# Altium integrated library Thermistor - NTC.IntLib: 283 symbols (part 4 of 5)
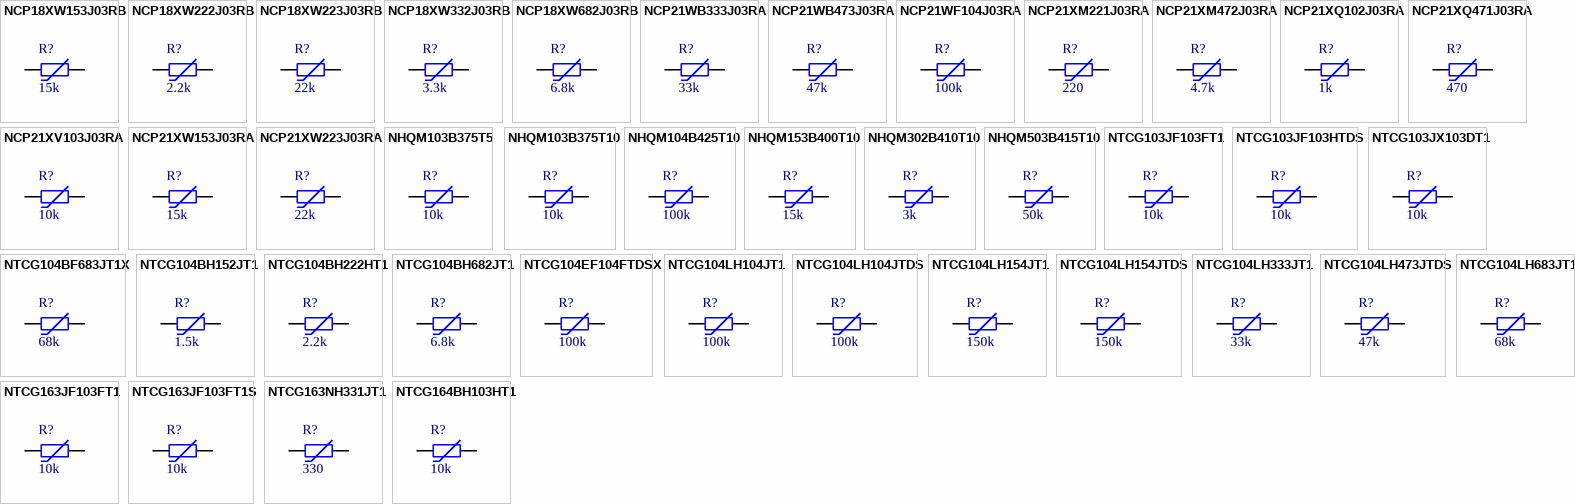
[diagram p10: symbols NCP18XW153J03RB to NTCG164BH103HT1]

## NTCG104LH104JTDS
designator R?  Resistance in Ohms @ 25C: 100k
THERMISTOR, NTC, 100K OHM, 5%, 0; Part Number: NTCG104LH104JTDS; Manufacturer: TDK Corporation; TemperatureRange: -40C ~ 125C; B Value Tolerance: 3%; B25/50: 4485K; B25/85: 4550K; Value: 100k; PartId: 16535; Supplier 1: Digi-Key; Supplier Part Number 1: 445-174512-2-ND; ComponentLink1Description: Datasheet; ComponentLink1URL: //media.digikey.com/pdf/Data%20Sheets/TDK%20PDFs/NTCG104LH104JTDS_Spec.pdf; ComponentLink2Description: Digi-Key Listing; ComponentLink2URL: https://www.digikey.com/product-detail/en/tdk-corporation/NTCG104LH104JTDS/445-174512-2-ND/5981590; Price: 0.0338; Resistance Tolerance: 5%; Device Package: 0402 (1005 Metric)
footprint FER 0402/1005
pins: 1, 2

## NTCG104LH154JT1
designator R?  Resistance in Ohms @ 25C: 150k
THERMISTOR, NTC, 150K OHM, 5%, 0; Part Number: NTCG104LH154JT1; Manufacturer: TDK Corporation; TemperatureRange: -40C ~ 125C; B Value Tolerance: 3%; B25/50: 4485K; B25/85: 4550K; Value: 150k; PartId: 16538; Supplier 1: Digi-Key; Supplier Part Number 1: 445-174318-2-ND; ComponentLink1Description: Datasheet; ComponentLink1URL: https://product.tdk.com/info/en/catalog/datasheets/tpd_ntc-thermistor_ntcg_en.pdf; ComponentLink2Description: Digi-Key Listing; ComponentLink2URL: https://www.digikey.com/product-detail/en/tdk-corporation/NTCG104LH154JT1/445-174318-2-ND/5872765; Price: 0.0338; Resistance Tolerance: 5%; Device Package: 0402 (1005 Metric)
footprint FER 0402/1005
pins: 1, 2

## NTCG104LH154JTDS
designator R?  Resistance in Ohms @ 25C: 150k
THERMISTOR, NTC, 150K OHM, 5%, 0; Part Number: NTCG104LH154JTDS; Manufacturer: TDK Corporation; TemperatureRange: -40C ~ 125C; B Value Tolerance: 3%; B25/50: 4485K; B25/85: 4550K; Value: 150k; PartId: 16534; Supplier 1: Digi-Key; Supplier Part Number 1: 445-174513-2-ND; ComponentLink1Description: Datasheet; ComponentLink1URL: //media.digikey.com/pdf/Data%20Sheets/TDK%20PDFs/NTCG104LH154JTDS_Spec.pdf; ComponentLink2Description: Digi-Key Listing; ComponentLink2URL: https://www.digikey.com/product-detail/en/tdk-corporation/NTCG104LH154JTDS/445-174513-2-ND/5981591; Price: 0.0338; Resistance Tolerance: 5%; Device Package: 0402 (1005 Metric)
footprint FER 0402/1005
pins: 1, 2

## NTCG104LH333JT1
designator R?  Resistance in Ohms @ 25C: 33k
THERMISTOR, NTC, 33K OHM, 5%, 04; Part Number: NTCG104LH333JT1; Manufacturer: TDK Corporation; TemperatureRange: -40C ~ 125C; B Value Tolerance: 3%; B25/50: 4485K; B25/85: 4550K; Value: 33k; PartId: 16537; Supplier 1: Digi-Key; Supplier Part Number 1: 445-174320-2-ND; ComponentLink1Description: Datasheet; ComponentLink1URL: https://product.tdk.com/info/en/catalog/datasheets/tpd_ntc-thermistor_ntcg_en.pdf; ComponentLink2Description: Digi-Key Listing; ComponentLink2URL: https://www.digikey.com/product-detail/en/tdk-corporation/NTCG104LH333JT1/445-174320-2-ND/5872767; Price: 0.0338; Resistance Tolerance: 5%; Device Package: 0402 (1005 Metric)
footprint FER 0402/1005
pins: 1, 2

## NTCG104LH473JTDS
designator R?  Resistance in Ohms @ 25C: 47k
THERMISTOR, NTC, 47K OHM, 5%, 04; Part Number: NTCG104LH473JTDS; Manufacturer: TDK Corporation; TemperatureRange: -40C ~ 125C; B Value Tolerance: 3%; B25/50: 4485K; B25/85: 4550K; Value: 47k; PartId: 16533; Supplier 1: Digi-Key; Supplier Part Number 1: 445-174515-2-ND; ComponentLink1Description: Datasheet; ComponentLink1URL: //media.digikey.com/pdf/Data%20Sheets/TDK%20PDFs/NTCG104LH473JTDS_Spec.pdf; ComponentLink2Description: Digi-Key Listing; ComponentLink2URL: https://www.digikey.com/product-detail/en/tdk-corporation/NTCG104LH473JTDS/445-174515-2-ND/5981593; Price: 0.0338; Resistance Tolerance: 5%; Device Package: 0402 (1005 Metric)
footprint FER 0402/1005
pins: 1, 2

## NTCG104LH683JT1
designator R?  Resistance in Ohms @ 25C: 68k
THERMISTOR, NTC, 68K OHM, 5%, 04; Part Number: NTCG104LH683JT1; Manufacturer: TDK Corporation; TemperatureRange: -40C ~ 125C; B Value Tolerance: 3%; B25/50: 4485K; B25/85: 4550K; Value: 68k; PartId: 16536; Supplier 1: Digi-Key; Supplier Part Number 1: 445-174322-2-ND; ComponentLink1Description: Datasheet; ComponentLink1URL: https://product.tdk.com/info/en/catalog/datasheets/tpd_ntc-thermistor_ntcg_en.pdf; ComponentLink2Description: Digi-Key Listing; ComponentLink2URL: https://www.digikey.com/product-detail/en/tdk-corporation/NTCG104LH683JT1/445-174322-2-ND/5872769; Price: 0.0338; Resistance Tolerance: 5%; Device Package: 0402 (1005 Metric)
footprint FER 0402/1005
pins: 1, 2

## NTCG163JF103FT1
designator R?  Resistance in Ohms @ 25C: 10k
THERMISTOR NTC 10K OHM 1% 0603; Part Number: NTCG163JF103FT1; Manufacturer: TDK Corporation; TemperatureRange: -40C ~ 125C; B25/50: 3380K; B25/85: 3435K; Value: 10k; PartId: 16579; Supplier 1: Digi-Key; Supplier Part Number 1: 445-2554-2-ND; ComponentLink1Description: Datasheet; ComponentLink1URL: https://product.tdk.com/info/en/catalog/datasheets/tpd_ntc-thermistor_ntcg_en.pdf; ComponentLink2Description: Digi-Key Listing; ComponentLink2URL: https://www.digikey.com/product-detail/en/tdk-corporation/NTCG163JF103FT1/445-2554-2-ND/614632; Price: 0.1315; Resistance Tolerance: 1%; B Value Tolerance: 1%; Device Package: 0603 (1608 Metric)
footprint FER 0603/1608
pins: 1, 2

## NTCG163JF103FT1S
designator R?  Resistance in Ohms @ 25C: 10k
THERMISTOR NTC 10K OHM 1% 0603; Part Number: NTCG163JF103FT1S; Manufacturer: TDK Corporation; TemperatureRange: -40C ~ 150C; B25/85: 3435K; Power - Max: 100mW; Value: 10k; PartId: 16694; Supplier 1: Digi-Key; Supplier Part Number 1: 445-6881-2-ND; ComponentLink1Description: Datasheet; ComponentLink1URL: https://product.tdk.com/info/en/catalog/datasheets/tpd_ntc-thermistor_ntcg_en.pdf; ComponentLink2Description: Digi-Key Listing; ComponentLink2URL: https://www.digikey.com/product-detail/en/tdk-corporation/NTCG163JF103FT1S/445-6881-2-ND/2658337; Price: 0.3939; Resistance Tolerance: 1%; B Value Tolerance: 1%; Device Package: 0603 (1608 Metric)
footprint FER 0603/1608
pins: 1, 2

## NTCG163NH331JT1
designator R?  Resistance in Ohms @ 25C: 330
THERMISTOR, NTC, 330 OHM, 5%, 06; Part Number: NTCG163NH331JT1; Manufacturer: TDK Corporation; Value: 330; TemperatureRange: -40C ~ 125C; B Value Tolerance: 3%; PartId: 16674; Supplier 1: Digi-Key; Supplier Part Number 1: 445-174325-2-ND; ComponentLink1Description: Datasheet; ComponentLink1URL: https://product.tdk.com/info/en/catalog/datasheets/tpd_ntc-thermistor_ntcg_en.pdf; ComponentLink2Description: Digi-Key Listing; ComponentLink2URL: https://www.digikey.com/product-detail/en/tdk-corporation/NTCG163NH331JT1/445-174325-2-ND/5872772; Price: 0.0707; Resistance Tolerance: 5%; Device Package: 0603 (1608 Metric)
footprint FER 0603/1608
pins: 1, 2

## NTCG164BH103HT1
designator R?  Resistance in Ohms @ 25C: 10k
THERMISTOR NTC 10K OHM 3% 0603; Part Number: NTCG164BH103HT1; Manufacturer: TDK Corporation; TemperatureRange: -40C ~ 125C; B25/50: 4067K; B25/85: 4100K; Value: 10k; PartId: 16612; Supplier 1: Digi-Key; Supplier Part Number 1: 445-2555-2-ND; ComponentLink1Description: Datasheet; ComponentLink1URL: https://product.tdk.com/info/en/catalog/datasheets/tpd_ntc-thermistor_ntcg_en.pdf; ComponentLink2Description: Digi-Key Listing; ComponentLink2URL: https://www.digikey.com/product-detail/en/tdk-corporation/NTCG164BH103HT1/445-2555-2-ND/614633; Price: 0.1096; Resistance Tolerance: 3%; B Value Tolerance: 3%; Device Package: 0603 (1608 Metric)
footprint FER 0603/1608
pins: 1, 2

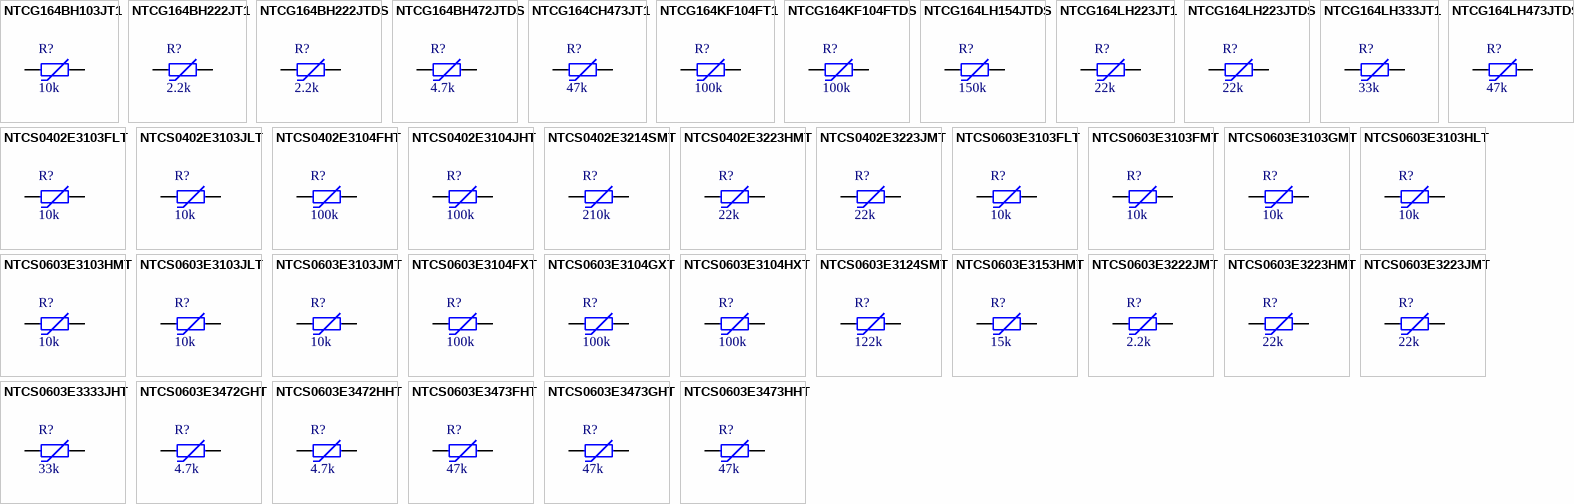
[diagram p5: symbols NTCG164BH103JT1 to NTCS0603E3473HHT]

## NTCG164BH103JT1
designator R?  Resistance in Ohms @ 25C: 10k
THERMISTOR, NTC, 10K OHM, 5%, 06; Part Number: NTCG164BH103JT1; Manufacturer: TDK Corporation; TemperatureRange: -40C ~ 125C; B Value Tolerance: 3%; B25/50: 4067K; B25/85: 4100K; Value: 10k; PartId: 16673; Supplier 1: Digi-Key; Supplier Part Number 1: 445-174327-2-ND; ComponentLink1Description: Datasheet; ComponentLink1URL: https://product.tdk.com/info/en/catalog/datasheets/tpd_ntc-thermistor_ntcg_en.pdf; ComponentLink2Description: Digi-Key Listing; ComponentLink2URL: https://www.digikey.com/product-detail/en/tdk-corporation/NTCG164BH103JT1/445-174327-2-ND/5872774; Price: 0.0707; Resistance Tolerance: 5%; Device Package: 0603 (1608 Metric)
footprint FER 0603/1608
pins: 1, 2

## NTCG164BH222JT1
designator R?  Resistance in Ohms @ 25C: 2.2k
THERMISTOR, NTC, 2.2K OHM, 5%, 0; Part Number: NTCG164BH222JT1; Manufacturer: TDK Corporation; TemperatureRange: -40C ~ 125C; B Value Tolerance: 3%; B25/50: 4096K; B25/85: 4100K; Value: 2.2k; PartId: 16672; Supplier 1: Digi-Key; Supplier Part Number 1: 445-174328-2-ND; ComponentLink1Description: Datasheet; ComponentLink1URL: https://product.tdk.com/info/en/catalog/datasheets/tpd_ntc-thermistor_ntcg_en.pdf; ComponentLink2Description: Digi-Key Listing; ComponentLink2URL: https://www.digikey.com/product-detail/en/tdk-corporation/NTCG164BH222JT1/445-174328-2-ND/5872775; Price: 0.0707; Resistance Tolerance: 5%; Device Package: 0603 (1608 Metric)
footprint FER 0603/1608
pins: 1, 2

## NTCG164BH222JTDS
designator R?  Resistance in Ohms @ 25C: 2.2k
THERMISTOR, NTC, 2.2K OHM, 5%, 0; Part Number: NTCG164BH222JTDS; Manufacturer: TDK Corporation; TemperatureRange: -40C ~ 125C; B Value Tolerance: 3%; B25/50: 4096K; B25/85: 4100K; Value: 2.2k; PartId: 16668; Supplier 1: Digi-Key; Supplier Part Number 1: 445-174521-2-ND; ComponentLink1Description: Datasheet; ComponentLink1URL: //media.digikey.com/pdf/Data%20Sheets/TDK%20PDFs/NTCG164BH222JTDS_Spec.pdf; ComponentLink2Description: Digi-Key Listing; ComponentLink2URL: https://www.digikey.com/product-detail/en/tdk-corporation/NTCG164BH222JTDS/445-174521-2-ND/5981599; Price: 0.0707; Resistance Tolerance: 5%; Device Package: 0603 (1608 Metric)
footprint FER 0603/1608
pins: 1, 2

## NTCG164BH472JTDS
designator R?  Resistance in Ohms @ 25C: 4.7k
THERMISTOR, NTC, 4.7K OHM, 5%, 0; Part Number: NTCG164BH472JTDS; Manufacturer: TDK Corporation; TemperatureRange: -40C ~ 125C; B Value Tolerance: 3%; B25/50: 4096K; B25/85: 4100K; Value: 4.7k; PartId: 16667; Supplier 1: Digi-Key; Supplier Part Number 1: 445-174522-2-ND; ComponentLink1Description: Datasheet; ComponentLink1URL: //media.digikey.com/pdf/Data%20Sheets/TDK%20PDFs/NTCG164BH472JTDS_Spec.pdf; ComponentLink2Description: Digi-Key Listing; ComponentLink2URL: https://www.digikey.com/product-detail/en/tdk-corporation/NTCG164BH472JTDS/445-174522-2-ND/5981600; Price: 0.0707; Resistance Tolerance: 5%; Device Package: 0603 (1608 Metric)
footprint FER 0603/1608
pins: 1, 2

## NTCG164CH473JT1
designator R?  Resistance in Ohms @ 25C: 47k
THERMISTOR, NTC, 47K OHM, 5%, 06; Part Number: NTCG164CH473JT1; Manufacturer: TDK Corporation; TemperatureRange: -40C ~ 125C; B Value Tolerance: 3%; B25/50: 4050K; B25/85: 4150K; Value: 47k; PartId: 16671; Supplier 1: Digi-Key; Supplier Part Number 1: 445-174330-2-ND; ComponentLink1Description: Datasheet; ComponentLink1URL: https://product.tdk.com/info/en/catalog/datasheets/tpd_ntc-thermistor_ntcg_en.pdf; ComponentLink2Description: Digi-Key Listing; ComponentLink2URL: https://www.digikey.com/product-detail/en/tdk-corporation/NTCG164CH473JT1/445-174330-2-ND/5872777; Price: 0.0707; Resistance Tolerance: 5%; Device Package: 0603 (1608 Metric)
footprint FER 0603/1608
pins: 1, 2

## NTCG164KF104FT1
designator R?  Resistance in Ohms @ 25C: 100k
THERMISTOR NTC 100K OHM 1% 0603; Part Number: NTCG164KF104FT1; Manufacturer: TDK Corporation; TemperatureRange: -40C ~ 125C; B Value Tolerance: 3%; B25/50: 4419K; B25/85: 4485K; Power - Max: 230mW; Value: 100k; PartId: 16616; Supplier 1: Digi-Key; Supplier Part Number 1: 445-2556-2-ND; ComponentLink1Description: Datasheet; ComponentLink1URL: https://product.tdk.com/info/en/catalog/datasheets/tpd_ntc-thermistor_ntcg_en.pdf; ComponentLink2Description: Digi-Key Listing; ComponentLink2URL: https://www.digikey.com/product-detail/en/tdk-corporation/NTCG164KF104FT1/445-2556-2-ND/614634; Price: 0.1315; Resistance Tolerance: 1%; Device Package: 0603 (1608 Metric)
footprint FER 0603/1608
pins: 1, 2

## NTCG164KF104FTDS
designator R?  Resistance in Ohms @ 25C: 100k
THERMISTOR, NTC, 100K OHM, 1%, 0; Part Number: NTCG164KF104FTDS; Manufacturer: TDK Corporation; TemperatureRange: -40C ~ 125C; B25/50: 4419K; B25/85: 4485K; Value: 100k; PartId: 16655; Supplier 1: Digi-Key; Supplier Part Number 1: 445-174524-2-ND; ComponentLink1Description: Datasheet; ComponentLink1URL: //media.digikey.com/pdf/Data%20Sheets/TDK%20PDFs/NTCG164KF104FTDS_Spec.pdf; ComponentLink2Description: Digi-Key Listing; ComponentLink2URL: https://www.digikey.com/product-detail/en/tdk-corporation/NTCG164KF104FTDS/445-174524-2-ND/5981602; Price: 0.1335; Resistance Tolerance: 1%; B Value Tolerance: 1%; Device Package: 0603 (1608 Metric)
footprint FER 0603/1608
pins: 1, 2

## NTCG164LH154JTDS
designator R?  Resistance in Ohms @ 25C: 150k
THERMISTOR, NTC, 150K OHM, 5%, 0; Part Number: NTCG164LH154JTDS; Manufacturer: TDK Corporation; TemperatureRange: -40C ~ 125C; B Value Tolerance: 3%; B25/50: 4485K; B25/85: 4550K; Value: 150k; PartId: 16666; Supplier 1: Digi-Key; Supplier Part Number 1: 445-174526-2-ND; ComponentLink1Description: Datasheet; ComponentLink1URL: //media.digikey.com/pdf/Data%20Sheets/TDK%20PDFs/NTCG164LH154JTDS_Spec.pdf; ComponentLink2Description: Digi-Key Listing; ComponentLink2URL: https://www.digikey.com/product-detail/en/tdk-corporation/NTCG164LH154JTDS/445-174526-2-ND/5981604; Price: 0.0707; Resistance Tolerance: 5%; Device Package: 0603 (1608 Metric)
footprint FER 0603/1608
pins: 1, 2

## NTCG164LH223JT1
designator R?  Resistance in Ohms @ 25C: 22k
THERMISTOR, NTC, 22K OHM, 5%, 06; Part Number: NTCG164LH223JT1; Manufacturer: TDK Corporation; TemperatureRange: -40C ~ 125C; B Value Tolerance: 3%; B25/50: 4485K; B25/85: 4550K; Value: 22k; PartId: 16670; Supplier 1: Digi-Key; Supplier Part Number 1: 445-174333-2-ND; ComponentLink1Description: Datasheet; ComponentLink1URL: https://product.tdk.com/info/en/catalog/datasheets/tpd_ntc-thermistor_ntcg_en.pdf; ComponentLink2Description: Digi-Key Listing; ComponentLink2URL: https://www.digikey.com/product-detail/en/tdk-corporation/NTCG164LH223JT1/445-174333-2-ND/5872780; Price: 0.0707; Resistance Tolerance: 5%; Device Package: 0603 (1608 Metric)
footprint FER 0603/1608
pins: 1, 2

## NTCG164LH223JTDS
designator R?  Resistance in Ohms @ 25C: 22k
THERMISTOR, NTC, 22K OHM, 5%, 06; Part Number: NTCG164LH223JTDS; Manufacturer: TDK Corporation; TemperatureRange: -40C ~ 125C; B Value Tolerance: 3%; B25/50: 4485K; B25/85: 4550K; Value: 22k; PartId: 16665; Supplier 1: Digi-Key; Supplier Part Number 1: 445-174527-2-ND; ComponentLink1Description: Datasheet; ComponentLink1URL: //media.digikey.com/pdf/Data%20Sheets/TDK%20PDFs/NTCG164LH223JTDS_Spec.pdf; ComponentLink2Description: Digi-Key Listing; ComponentLink2URL: https://www.digikey.com/product-detail/en/tdk-corporation/NTCG164LH223JTDS/445-174527-2-ND/5981605; Price: 0.0707; Resistance Tolerance: 5%; Device Package: 0603 (1608 Metric)
footprint FER 0603/1608
pins: 1, 2

## NTCG164LH333JT1
designator R?  Resistance in Ohms @ 25C: 33k
THERMISTOR, NTC, 33K OHM, 5%, 06; Part Number: NTCG164LH333JT1; Manufacturer: TDK Corporation; TemperatureRange: -40C ~ 125C; B Value Tolerance: 3%; B25/50: 4485K; B25/85: 4550K; Value: 33k; PartId: 16669; Supplier 1: Digi-Key; Supplier Part Number 1: 445-174334-2-ND; ComponentLink1Description: Datasheet; ComponentLink1URL: https://product.tdk.com/info/en/catalog/datasheets/tpd_ntc-thermistor_ntcg_en.pdf; ComponentLink2Description: Digi-Key Listing; ComponentLink2URL: https://www.digikey.com/product-detail/en/tdk-corporation/NTCG164LH333JT1/445-174334-2-ND/5872781; Price: 0.0707; Resistance Tolerance: 5%; Device Package: 0603 (1608 Metric)
footprint FER 0603/1608
pins: 1, 2

## NTCG164LH473JTDS
designator R?  Resistance in Ohms @ 25C: 47k
THERMISTOR, NTC, 47K OHM, 5%, 06; Part Number: NTCG164LH473JTDS; Manufacturer: TDK Corporation; TemperatureRange: -40C ~ 125C; B Value Tolerance: 3%; B25/50: 4485K; B25/85: 4550K; Value: 47k; PartId: 16664; Supplier 1: Digi-Key; Supplier Part Number 1: 445-174528-2-ND; ComponentLink1Description: Datasheet; ComponentLink1URL: //media.digikey.com/pdf/Data%20Sheets/TDK%20PDFs/NTCG164LH473JTDS_Spec.pdf; ComponentLink2Description: Digi-Key Listing; ComponentLink2URL: https://www.digikey.com/product-detail/en/tdk-corporation/NTCG164LH473JTDS/445-174528-2-ND/5981606; Price: 0.0707; Resistance Tolerance: 5%; Device Package: 0603 (1608 Metric)
footprint FER 0603/1608
pins: 1, 2

## NTCS0402E3103FLT
designator R?  Resistance in Ohms @ 25C: 10k
THERMISTOR NTC 10K 1% 0402; Part Number: NTCS0402E3103FLT; Manufacturer: Vishay BC Components; TemperatureRange: -40C ~ 150C; B Value Tolerance: 3%; B25/85: 3490K; Power - Max: 70mW; Value: 10k; PartId: 16495; Supplier 1: Digi-Key; Supplier Part Number 1: BC2534TR-ND; ComponentLink1Description: Datasheet; ComponentLink1URL: http://www.vishay.com/docs/29003/ntc0402e3t.pdf; ComponentLink2Description: Digi-Key Listing; ComponentLink2URL: https://www.digikey.com/product-detail/en/vishay-bc-components/NTCS0402E3103FLT/BC2534TR-ND/1242122; Price: 0.1607; Resistance Tolerance: 1%; Device Package: 0402 (1005 Metric)
footprint FER 0402/1005
pins: 1, 2

## NTCS0402E3103JLT
designator R?  Resistance in Ohms @ 25C: 10k
THERMISTOR NTC 10K OHM SMT 0402; Part Number: NTCS0402E3103JLT; Manufacturer: Vishay BC Components; TemperatureRange: -40C ~ 150C; Resistance Tolerance: 5%; B Value Tolerance: 3%; B25/85: 3490K; Power - Max: 70mW; Value: 10k; PartId: 16564; Supplier 1: Digi-Key; Supplier Part Number 1: BC2329TR-ND; ComponentLink1Description: Datasheet; ComponentLink1URL: http://www.vishay.com/docs/29003/ntc0402e3t.pdf; ComponentLink2Description: Digi-Key Listing; ComponentLink2URL: https://www.digikey.com/product-detail/en/vishay-bc-components/NTCS0402E3103JLT/BC2329TR-ND/1245343; Price: 0.1229; Device Package: 0402 (1005 Metric)
footprint FER 0402/1005
pins: 1, 2

## NTCS0402E3104FHT
designator R?  Resistance in Ohms @ 25C: 100k
THERMISTOR NTC 100K OHM 1% 0402; Part Number: NTCS0402E3104FHT; Manufacturer: Vishay BC Components; TemperatureRange: -40C ~ 150C; B Value Tolerance: 3%; B25/85: 3950K; Power - Max: 70mW; Value: 100k; PartId: 16500; Supplier 1: Digi-Key; Supplier Part Number 1: BC2806TR-ND; ComponentLink1Description: Datasheet; ComponentLink1URL: http://www.vishay.com/docs/29003/ntc0402e3t.pdf; ComponentLink2Description: Digi-Key Listing; ComponentLink2URL: https://www.digikey.com/product-detail/en/vishay-bc-components/NTCS0402E3104FHT/BC2806TR-ND/1242134; Price: 0.1607; Resistance Tolerance: 1%; Device Package: 0402 (1005 Metric)
footprint FER 0402/1005
pins: 1, 2

## NTCS0402E3104JHT
designator R?  Resistance in Ohms @ 25C: 100k
THERMISTOR NTC 100K OHM 5% 0402; Part Number: NTCS0402E3104JHT; Manufacturer: Vishay BC Components; TemperatureRange: -40C ~ 150C; B Value Tolerance: 3%; B25/85: 3950K; Power - Max: 70mW; Value: 100k; PartId: 16493; Supplier 1: Digi-Key; Supplier Part Number 1: BC2341TR-ND; ComponentLink1Description: Datasheet; ComponentLink1URL: http://www.vishay.com/docs/29003/ntc0402e3t.pdf; ComponentLink2Description: Digi-Key Listing; ComponentLink2URL: https://www.digikey.com/product-detail/en/vishay-bc-components/NTCS0402E3104JHT/BC2341TR-ND/1245355; Price: 0.1229; Resistance Tolerance: 5%; Device Package: 0402 (1005 Metric)
footprint FER 0402/1005
pins: 1, 2

## NTCS0402E3214SMT
designator R?  Resistance in Ohms @ 25C: 210k
THERMISTOR NTC 210K OHM SMT 0402; Part Number: NTCS0402E3214SMT; Manufacturer: Vishay BC Components; TemperatureRange: -40C ~ 125C; Resistance Tolerance: 1%; B25/85: 3590K; Power - Max: 70mW; Value: 210k; PartId: 16549; Supplier 1: Digi-Key; Supplier Part Number 1: BC2903TR-ND; ComponentLink1Description: Datasheet; ComponentLink1URL: http://www.vishay.com/docs/29151/ntcse3smt.pdf; ComponentLink2Description: Digi-Key Listing; ComponentLink2URL: https://www.digikey.com/product-detail/en/vishay-bc-components/NTCS0402E3214SMT/BC2903TR-ND/4896940; Price: 0.2515; B Value Tolerance: 1%; Device Package: 0402 (1005 Metric)
footprint FER 0402/1005
pins: 1, 2

## NTCS0402E3223HMT
designator R?  Resistance in Ohms @ 25C: 22k
THERMISTOR NTC 22K OHM SMT 0402; Part Number: NTCS0402E3223HMT; Manufacturer: Vishay BC Components; TemperatureRange: -40C ~ 150C; Resistance Tolerance: 3%; B25/85: 3590K; Power - Max: 70mW; Value: 22k; PartId: 16571; Supplier 1: Digi-Key; Supplier Part Number 1: BC2332TR-ND; ComponentLink1Description: Datasheet; ComponentLink1URL: http://www.vishay.com/docs/29003/ntc0402e3t.pdf; ComponentLink2Description: Digi-Key Listing; ComponentLink2URL: https://www.digikey.com/product-detail/en/vishay-bc-components/NTCS0402E3223HMT/BC2332TR-ND/1245346; Price: 0.1477; B Value Tolerance: 3%; Device Package: 0402 (1005 Metric)
footprint FER 0402/1005
pins: 1, 2

## NTCS0402E3223JMT
designator R?  Resistance in Ohms @ 25C: 22k
THERMISTOR NTC 22K OHM SMT 0402; Part Number: NTCS0402E3223JMT; Manufacturer: Vishay BC Components; TemperatureRange: -40C ~ 150C; Resistance Tolerance: 5%; B Value Tolerance: 3%; B25/85: 3590K; Power - Max: 70mW; Value: 22k; PartId: 16550; Supplier 1: Digi-Key; Supplier Part Number 1: BC2333TR-ND; ComponentLink1Description: Datasheet; ComponentLink1URL: http://www.vishay.com/docs/29003/ntc0402e3t.pdf; ComponentLink2Description: Digi-Key Listing; ComponentLink2URL: https://www.digikey.com/product-detail/en/vishay-bc-components/NTCS0402E3223JMT/BC2333TR-ND/1245347; Price: 0.1229; Device Package: 0402 (1005 Metric)
footprint FER 0402/1005
pins: 1, 2

## NTCS0603E3103FLT
designator R?  Resistance in Ohms @ 25C: 10k
THERMISTOR NTC 10K OHM SMD 0603; Part Number: NTCS0603E3103FLT; Manufacturer: Vishay BC Components; TemperatureRange: -40C ~ 150C; Resistance Tolerance: 1%; B25/85: 3435K; Power - Max: 125mW; Value: 10k; PartId: 16637; Supplier 1: Digi-Key; Supplier Part Number 1: BC2737TR-ND; ComponentLink1Description: Datasheet; ComponentLink1URL: http://www.vishay.com/docs/29056/ntcs0603.pdf; ComponentLink2Description: Digi-Key Listing; ComponentLink2URL: https://www.digikey.com/product-detail/en/vishay-bc-components/NTCS0603E3103FLT/BC2737TR-ND/2615420; Price: 0.284; B Value Tolerance: 1%; Device Package: 0603 (1608 Metric)
footprint FER 0603/1608
pins: 1, 2

## NTCS0603E3103FMT
designator R?  Resistance in Ohms @ 25C: 10k
THERMISTOR NTC 10K 1% 0603; Part Number: NTCS0603E3103FMT; Manufacturer: Vishay BC Components; TemperatureRange: -40C ~ 150C; B25/85: 3610K; Power - Max: 125mW; Value: 10k; PartId: 16614; Supplier 1: Digi-Key; Supplier Part Number 1: BC2472TR-ND; ComponentLink1Description: Datasheet; ComponentLink1URL: http://www.vishay.com/docs/29056/ntcs0603.pdf; ComponentLink2Description: Digi-Key Listing; ComponentLink2URL: https://www.digikey.com/product-detail/en/vishay-bc-components/NTCS0603E3103FMT/BC2472TR-ND/2230800; Price: 0.284; Resistance Tolerance: 1%; B Value Tolerance: 1%; Device Package: 0603 (1608 Metric)
footprint FER 0603/1608
pins: 1, 2

## NTCS0603E3103GMT
designator R?  Resistance in Ohms @ 25C: 10k
THERMISTOR NTC 10K 2% 0603; Part Number: NTCS0603E3103GMT; Manufacturer: Vishay BC Components; TemperatureRange: -40C ~ 150C; B Value Tolerance: 1%; B25/85: 3610K; Power - Max: 125mW; Value: 10k; PartId: 16625; Supplier 1: Digi-Key; Supplier Part Number 1: BC2473TR-ND; ComponentLink1Description: Datasheet; ComponentLink1URL: http://www.vishay.com/docs/29056/ntcs0603.pdf; ComponentLink2Description: Digi-Key Listing; ComponentLink2URL: https://www.digikey.com/product-detail/en/vishay-bc-components/NTCS0603E3103GMT/BC2473TR-ND/2230801; Price: 0.2545; Resistance Tolerance: 2%; Device Package: 0603 (1608 Metric)
footprint FER 0603/1608
pins: 1, 2

## NTCS0603E3103HLT
designator R?  Resistance in Ohms @ 25C: 10k
THERMISTOR NTC 10K OHM SMD 0603; Part Number: NTCS0603E3103HLT; Manufacturer: Vishay BC Components; TemperatureRange: -40C ~ 150C; Resistance Tolerance: 3%; B Value Tolerance: 1%; B25/85: 3435K; Power - Max: 125mW; Value: 10k; PartId: 16678; Supplier 1: Digi-Key; Supplier Part Number 1: BC2739TR-ND; ComponentLink1Description: Datasheet; ComponentLink1URL: http://www.vishay.com/docs/29056/ntcs0603.pdf; ComponentLink2Description: Digi-Key Listing; ComponentLink2URL: https://www.digikey.com/product-detail/en/vishay-bc-components/NTCS0603E3103HLT/BC2739TR-ND/2615422; Price: 0.171; Device Package: 0603 (1608 Metric)
footprint FER 0603/1608
pins: 1, 2

## NTCS0603E3103HMT
designator R?  Resistance in Ohms @ 25C: 10k
THERMISTOR NTC 10K OHM 0603 SMD; Part Number: NTCS0603E3103HMT; Manufacturer: Vishay BC Components; TemperatureRange: -40C ~ 150C; Resistance Tolerance: 3%; B Value Tolerance: 1%; B25/85: 3610K; Power - Max: 125mW; Value: 10k; PartId: 16615; Supplier 1: Digi-Key; Supplier Part Number 1: BC2290TR-ND; ComponentLink1Description: Datasheet; ComponentLink1URL: http://www.vishay.com/docs/29056/ntcs0603.pdf; ComponentLink2Description: Digi-Key Listing; ComponentLink2URL: https://www.digikey.com/product-detail/en/vishay-bc-components/NTCS0603E3103HMT/BC2290TR-ND/769400; Price: 0.171; Device Package: 0603 (1608 Metric)
footprint FER 0603/1608
pins: 1, 2

## NTCS0603E3103JLT
designator R?  Resistance in Ohms @ 25C: 10k
THERMISTOR NTC 10K 5% 0603; Part Number: NTCS0603E3103JLT; Manufacturer: Vishay BC Components; TemperatureRange: -40C ~ 150C; B Value Tolerance: 1%; B25/85: 3610K; Power - Max: 125mW; Value: 10k; PartId: 16618; Supplier 1: Digi-Key; Supplier Part Number 1: BC2474TR-ND; ComponentLink1Description: Datasheet; ComponentLink1URL: http://www.vishay.com/docs/29056/ntcs0603.pdf; ComponentLink2Description: Digi-Key Listing; ComponentLink2URL: https://www.digikey.com/product-detail/en/vishay-bc-components/NTCS0603E3103JLT/BC2474TR-ND/2230802; Price: 0.1328; Resistance Tolerance: 5%; Device Package: 0603 (1608 Metric)
footprint FER 0603/1608
pins: 1, 2

## NTCS0603E3103JMT
designator R?  Resistance in Ohms @ 25C: 10k
THERMISTOR NTC 10K OHM 0603 SMD; Part Number: NTCS0603E3103JMT; Manufacturer: Vishay BC Components; TemperatureRange: -40C ~ 150C; Resistance Tolerance: 5%; B Value Tolerance: 1%; B25/85: 3610K; Power - Max: 125mW; Value: 10k; PartId: 16626; Supplier 1: Digi-Key; Supplier Part Number 1: BC2289TR-ND; ComponentLink1Description: Datasheet; ComponentLink1URL: http://www.vishay.com/docs/29056/ntcs0603.pdf; ComponentLink2Description: Digi-Key Listing; ComponentLink2URL: https://www.digikey.com/product-detail/en/vishay-bc-components/NTCS0603E3103JMT/BC2289TR-ND/769399; Price: 0.1328; Device Package: 0603 (1608 Metric)
footprint FER 0603/1608
pins: 1, 2

## NTCS0603E3104FXT
designator R?  Resistance in Ohms @ 25C: 100k
THERMISTOR NTC 100K OHM 1% 0603; Part Number: NTCS0603E3104FXT; Manufacturer: Vishay BC Components; TemperatureRange: -40C ~ 150C; B25/85: 4100K; Power - Max: 125mW; Value: 100k; PartId: 16638; Supplier 1: Digi-Key; Supplier Part Number 1: BC2475TR-ND; ComponentLink1Description: Datasheet; ComponentLink1URL: http://www.vishay.com/docs/29056/ntcs0603.pdf; ComponentLink2Description: Digi-Key Listing; ComponentLink2URL: https://www.digikey.com/product-detail/en/vishay-bc-components/NTCS0603E3104FXT/BC2475TR-ND/2230803; Price: 0.284; Resistance Tolerance: 1%; B Value Tolerance: 1%; Device Package: 0603 (1608 Metric)
footprint FER 0603/1608
pins: 1, 2

## NTCS0603E3104GXT
designator R?  Resistance in Ohms @ 25C: 100k
THERMISTOR NTC 100K OHM 2% 0603; Part Number: NTCS0603E3104GXT; Manufacturer: Vishay BC Components; TemperatureRange: -40C ~ 150C; B Value Tolerance: 1%; B25/85: 4100K; Power - Max: 125mW; Value: 100k; PartId: 16617; Supplier 1: Digi-Key; Supplier Part Number 1: BC2476TR-ND; ComponentLink1Description: Datasheet; ComponentLink1URL: http://www.vishay.com/docs/29056/ntcs0603.pdf; ComponentLink2Description: Digi-Key Listing; ComponentLink2URL: https://www.digikey.com/product-detail/en/vishay-bc-components/NTCS0603E3104GXT/BC2476TR-ND/2230804; Price: 0.2545; Resistance Tolerance: 2%; Device Package: 0603 (1608 Metric)
footprint FER 0603/1608
pins: 1, 2

## NTCS0603E3104HXT
designator R?  Resistance in Ohms @ 25C: 100k
THERMISTOR NTC 100K OHM 3% 0603; Part Number: NTCS0603E3104HXT; Manufacturer: Vishay BC Components; TemperatureRange: -40C ~ 150C; B Value Tolerance: 1%; B25/85: 4100K; Power - Max: 125mW; Value: 100k; PartId: 16620; Supplier 1: Digi-Key; Supplier Part Number 1: BC2291TR-ND; ComponentLink1Description: Datasheet; ComponentLink1URL: http://www.vishay.com/docs/29056/ntcs0603.pdf; ComponentLink2Description: Digi-Key Listing; ComponentLink2URL: https://www.digikey.com/product-detail/en/vishay-bc-components/NTCS0603E3104HXT/BC2291TR-ND/769401; Price: 0.171; Resistance Tolerance: 3%; Device Package: 0603 (1608 Metric)
footprint FER 0603/1608
pins: 1, 2

## NTCS0603E3124SMT
designator R?  Resistance in Ohms @ 25C: 122k
THERMISTOR NTC 122K OHM SMT 0603; Part Number: NTCS0603E3124SMT; Manufacturer: Vishay BC Components; TemperatureRange: -40C ~ 125C; Resistance Tolerance: 1%; B25/85: 3590K; Power - Max: 120mW; Value: 122k; PartId: 16653; Supplier 1: Digi-Key; Supplier Part Number 1: BC2904TR-ND; ComponentLink1Description: Datasheet; ComponentLink1URL: http://www.vishay.com/docs/29151/ntcse3smt.pdf; ComponentLink2Description: Digi-Key Listing; ComponentLink2URL: https://www.digikey.com/product-detail/en/vishay-bc-components/NTCS0603E3124SMT/BC2904TR-ND/4896941; Price: 0.4036; B Value Tolerance: 1%; Device Package: 0603 (1608 Metric)
footprint FER 0603/1608
pins: 1, 2

## NTCS0603E3153HMT
designator R?  Resistance in Ohms @ 25C: 15k
THERMISTOR NTC 15K 3% 0603; Part Number: NTCS0603E3153HMT; Manufacturer: Vishay BC Components; TemperatureRange: -40C ~ 150C; B Value Tolerance: 1%; B25/85: 3600K; Power - Max: 125mW; Value: 15k; PartId: 16644; Supplier 1: Digi-Key; Supplier Part Number 1: BC2536TR-ND; ComponentLink1Description: Datasheet; ComponentLink1URL: http://www.vishay.com/docs/29056/ntcs0603.pdf; ComponentLink2Description: Digi-Key Listing; ComponentLink2URL: https://www.digikey.com/product-detail/en/vishay-bc-components/NTCS0603E3153HMT/BC2536TR-ND/774012; Price: 0.171; Resistance Tolerance: 3%; Device Package: 0603 (1608 Metric)
footprint FER 0603/1608
pins: 1, 2

## NTCS0603E3222JMT
designator R?  Resistance in Ohms @ 25C: 2.2k
THERMISTOR NTC 2.2K 5% 0603; Part Number: NTCS0603E3222JMT; Manufacturer: Vishay BC Components; TemperatureRange: -40C ~ 150C; B Value Tolerance: 1%; B25/85: 3520K; Power - Max: 125mW; Value: 2.2k; PartId: 16675; Supplier 1: Digi-Key; Supplier Part Number 1: BC2480TR-ND; ComponentLink1Description: Datasheet; ComponentLink1URL: http://www.vishay.com/docs/29056/ntcs0603.pdf; ComponentLink2Description: Digi-Key Listing; ComponentLink2URL: https://www.digikey.com/product-detail/en/vishay-bc-components/NTCS0603E3222JMT/BC2480TR-ND/2230808; Price: 0.1328; Resistance Tolerance: 5%; Device Package: 0603 (1608 Metric)
footprint FER 0603/1608
pins: 1, 2

## NTCS0603E3223HMT
designator R?  Resistance in Ohms @ 25C: 22k
THERMISTOR NTC 22K 3% 0603; Part Number: NTCS0603E3223HMT; Manufacturer: Vishay BC Components; TemperatureRange: -40C ~ 150C; B Value Tolerance: 1%; B25/85: 3730K; Power - Max: 125mW; Value: 22k; PartId: 16679; Supplier 1: Digi-Key; Supplier Part Number 1: BC2481TR-ND; ComponentLink1Description: Datasheet; ComponentLink1URL: http://www.vishay.com/docs/29056/ntcs0603.pdf; ComponentLink2Description: Digi-Key Listing; ComponentLink2URL: https://www.digikey.com/product-detail/en/vishay-bc-components/NTCS0603E3223HMT/BC2481TR-ND/2230809; Price: 0.171; Resistance Tolerance: 3%; Device Package: 0603 (1608 Metric)
footprint FER 0603/1608
pins: 1, 2

## NTCS0603E3223JMT
designator R?  Resistance in Ohms @ 25C: 22k
THERMISTOR NTC 22K 5% 0603; Part Number: NTCS0603E3223JMT; Manufacturer: Vishay BC Components; TemperatureRange: -40C ~ 150C; B Value Tolerance: 1%; B25/85: 3730K; Power - Max: 125mW; Value: 22k; PartId: 16628; Supplier 1: Digi-Key; Supplier Part Number 1: BC2482TR-ND; ComponentLink1Description: Datasheet; ComponentLink1URL: http://www.vishay.com/docs/29056/ntcs0603.pdf; ComponentLink2Description: Digi-Key Listing; ComponentLink2URL: https://www.digikey.com/product-detail/en/vishay-bc-components/NTCS0603E3223JMT/BC2482TR-ND/2230810; Price: 0.1328; Resistance Tolerance: 5%; Device Package: 0603 (1608 Metric)
footprint FER 0603/1608
pins: 1, 2

## NTCS0603E3333JHT
designator R?  Resistance in Ohms @ 25C: 33k
THERMISTOR NTC 33K 5% 0603; Part Number: NTCS0603E3333JHT; Manufacturer: Vishay BC Components; TemperatureRange: -40C ~ 150C; B Value Tolerance: 1%; B25/85: 3860K; Power - Max: 125mW; Value: 33k; PartId: 16645; Supplier 1: Digi-Key; Supplier Part Number 1: BC2485TR-ND; ComponentLink1Description: Datasheet; ComponentLink1URL: http://www.vishay.com/docs/29056/ntcs0603.pdf; ComponentLink2Description: Digi-Key Listing; ComponentLink2URL: https://www.digikey.com/product-detail/en/vishay-bc-components/NTCS0603E3333JHT/BC2485TR-ND/2230813; Price: 0.1328; Resistance Tolerance: 5%; Device Package: 0603 (1608 Metric)
footprint FER 0603/1608
pins: 1, 2

## NTCS0603E3472GHT
designator R?  Resistance in Ohms @ 25C: 4.7k
THERMISTOR NTC 4.7K 2% 0603; Part Number: NTCS0603E3472GHT; Manufacturer: Vishay BC Components; TemperatureRange: -40C ~ 150C; B Value Tolerance: 1%; B25/85: 3830K; Power - Max: 125mW; Value: 4.7k; PartId: 16608; Supplier 1: Digi-Key; Supplier Part Number 1: BC2487TR-ND; ComponentLink1Description: Datasheet; ComponentLink1URL: http://www.vishay.com/docs/29056/ntcs0603.pdf; ComponentLink2Description: Digi-Key Listing; ComponentLink2URL: https://www.digikey.com/product-detail/en/vishay-bc-components/NTCS0603E3472GHT/BC2487TR-ND/2230815; Price: 0.341; Resistance Tolerance: 2%; Device Package: 0603 (1608 Metric)
footprint FER 0603/1608
pins: 1, 2

## NTCS0603E3472HHT
designator R?  Resistance in Ohms @ 25C: 4.7k
THERMISTOR NTC 4.7K 3% 0603; Part Number: NTCS0603E3472HHT; Manufacturer: Vishay BC Components; TemperatureRange: -40C ~ 150C; B Value Tolerance: 1%; B25/85: 3830K; Power - Max: 125mW; Value: 4.7k; PartId: 16610; Supplier 1: Digi-Key; Supplier Part Number 1: BC2538TR-ND; ComponentLink1Description: Datasheet; ComponentLink1URL: http://www.vishay.com/docs/29056/ntcs0603.pdf; ComponentLink2Description: Digi-Key Listing; ComponentLink2URL: https://www.digikey.com/product-detail/en/vishay-bc-components/NTCS0603E3472HHT/BC2538TR-ND/774011; Price: 0.171; Resistance Tolerance: 3%; Device Package: 0603 (1608 Metric)
footprint FER 0603/1608
pins: 1, 2

## NTCS0603E3473FHT
designator R?  Resistance in Ohms @ 25C: 47k
THERMISTOR NTC 47K 1% 0603; Part Number: NTCS0603E3473FHT; Manufacturer: Vishay BC Components; TemperatureRange: -40C ~ 150C; B25/85: 3960K; Power - Max: 125mW; Value: 47k; PartId: 16685; Supplier 1: Digi-Key; Supplier Part Number 1: BC2488TR-ND; ComponentLink1Description: Datasheet; ComponentLink1URL: http://www.vishay.com/docs/29056/ntcs0603.pdf; ComponentLink2Description: Digi-Key Listing; ComponentLink2URL: https://www.digikey.com/product-detail/en/vishay-bc-components/NTCS0603E3473FHT/BC2488TR-ND/2230816; Price: 0.284; Resistance Tolerance: 1%; B Value Tolerance: 1%; Device Package: 0603 (1608 Metric)
footprint FER 0603/1608
pins: 1, 2

## NTCS0603E3473GHT
designator R?  Resistance in Ohms @ 25C: 47k
THERMISTOR NTC 47K 2% 0603; Part Number: NTCS0603E3473GHT; Manufacturer: Vishay BC Components; TemperatureRange: -40C ~ 150C; B Value Tolerance: 1%; B25/85: 3960K; Power - Max: 125mW; Value: 47k; PartId: 16677; Supplier 1: Digi-Key; Supplier Part Number 1: BC2489TR-ND; ComponentLink1Description: Datasheet; ComponentLink1URL: http://www.vishay.com/docs/29056/ntcs0603.pdf; ComponentLink2Description: Digi-Key Listing; ComponentLink2URL: https://www.digikey.com/product-detail/en/vishay-bc-components/NTCS0603E3473GHT/BC2489TR-ND/2230817; Price: 0.2545; Resistance Tolerance: 2%; Device Package: 0603 (1608 Metric)
footprint FER 0603/1608
pins: 1, 2

## NTCS0603E3473HHT
designator R?  Resistance in Ohms @ 25C: 47k
THERMISTOR NTC 47K 3% 0603; Part Number: NTCS0603E3473HHT; Manufacturer: Vishay BC Components; TemperatureRange: -40C ~ 150C; B Value Tolerance: 1%; B25/85: 3960K; Power - Max: 125mW; Value: 47k; PartId: 16643; Supplier 1: Digi-Key; Supplier Part Number 1: BC2540TR-ND; ComponentLink1Description: Datasheet; ComponentLink1URL: http://www.vishay.com/docs/29056/ntcs0603.pdf; ComponentLink2Description: Digi-Key Listing; ComponentLink2URL: https://www.digikey.com/product-detail/en/vishay-bc-components/NTCS0603E3473HHT/BC2540TR-ND/774013; Price: 0.171; Resistance Tolerance: 3%; Device Package: 0603 (1608 Metric)
footprint FER 0603/1608
pins: 1, 2

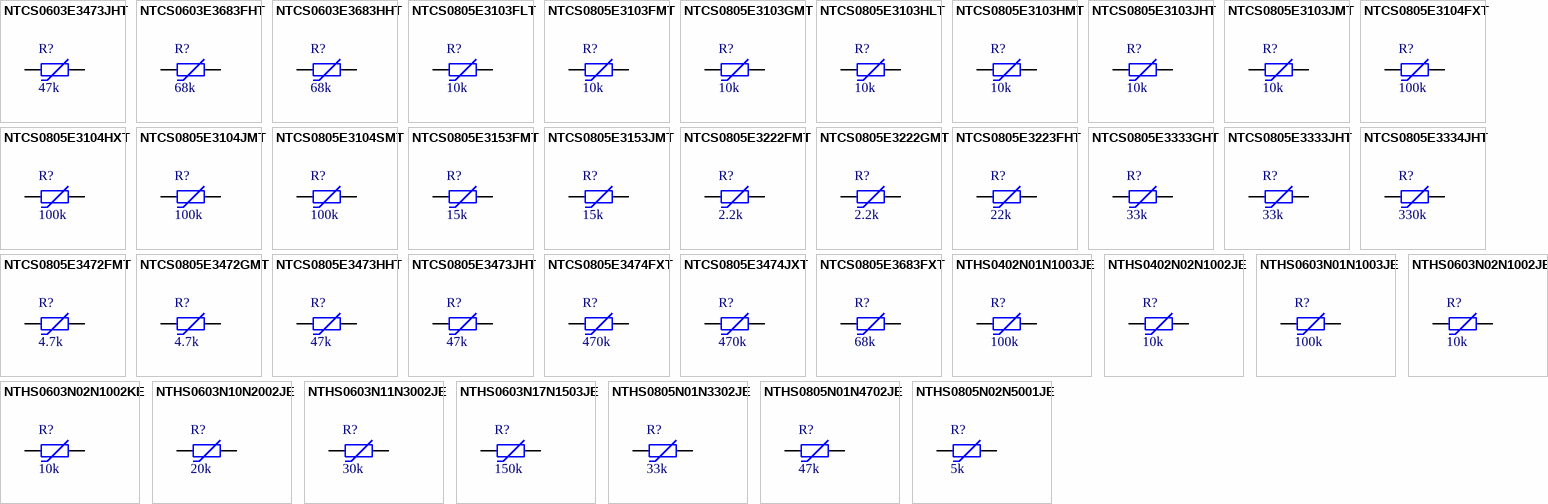
[diagram p6: symbols NTCS0603E3473JHT to NTHS0805N02N5001JE]

## NTCS0603E3473JHT
designator R?  Resistance in Ohms @ 25C: 47k
THERMISTOR NTC 47K 5% 0603; Part Number: NTCS0603E3473JHT; Manufacturer: Vishay BC Components; TemperatureRange: -40C ~ 150C; B Value Tolerance: 1%; B25/85: 3960K; Power - Max: 125mW; Value: 47k; PartId: 16632; Supplier 1: Digi-Key; Supplier Part Number 1: BC2541TR-ND; ComponentLink1Description: Datasheet; ComponentLink1URL: http://www.vishay.com/docs/29056/ntcs0603.pdf; ComponentLink2Description: Digi-Key Listing; ComponentLink2URL: https://www.digikey.com/product-detail/en/vishay-bc-components/NTCS0603E3473JHT/BC2541TR-ND/774009; Price: 0.178; Resistance Tolerance: 5%; Device Package: 0603 (1608 Metric)
footprint FER 0603/1608
pins: 1, 2

## NTCS0603E3683FHT
designator R?  Resistance in Ohms @ 25C: 68k
THERMISTOR NTC 68K OHM SMD 0603; Part Number: NTCS0603E3683FHT; Manufacturer: Vishay BC Components; TemperatureRange: -40C ~ 150C; Resistance Tolerance: 1%; B25/85: 3985K; Power - Max: 125mW; Value: 68k; PartId: 16641; Supplier 1: Digi-Key; Supplier Part Number 1: BC2555TR-ND; ComponentLink1Description: Datasheet; ComponentLink1URL: http://www.vishay.com/docs/29056/ntcs0603.pdf; ComponentLink2Description: Digi-Key Listing; ComponentLink2URL: https://www.digikey.com/product-detail/en/vishay-bc-components/NTCS0603E3683FHT/BC2555TR-ND/2237365; Price: 0.3805; B Value Tolerance: 1%; Device Package: 0603 (1608 Metric)
footprint FER 0603/1608
pins: 1, 2

## NTCS0603E3683HHT
designator R?  Resistance in Ohms @ 25C: 68k
THERMISTOR NTC 68K OHM SMD 0603; Part Number: NTCS0603E3683HHT; Manufacturer: Vishay BC Components; TemperatureRange: -40C ~ 150C; Resistance Tolerance: 3%; B Value Tolerance: 1%; B25/85: 3985K; Power - Max: 125mW; Value: 68k; PartId: 16630; Supplier 1: Digi-Key; Supplier Part Number 1: BC2556TR-ND; ComponentLink1Description: Datasheet; ComponentLink1URL: http://www.vishay.com/docs/29056/ntcs0603.pdf; ComponentLink2Description: Digi-Key Listing; ComponentLink2URL: https://www.digikey.com/product-detail/en/vishay-bc-components/NTCS0603E3683HHT/BC2556TR-ND/774014; Price: 0.171; Device Package: 0603 (1608 Metric)
footprint FER 0603/1608
pins: 1, 2

## NTCS0805E3103FLT
designator R?  Resistance in Ohms @ 25C: 10k
THERMISTOR NTC 10K OHM SMD 0805; Part Number: NTCS0805E3103FLT; Manufacturer: Vishay BC Components; TemperatureRange: -40C ~ 150C; Resistance Tolerance: 1%; B Value Tolerance: 3%; B25/85: 3430K; Power - Max: 210mW; Value: 10k; PartId: 16720; Supplier 1: Digi-Key; Supplier Part Number 1: BC2733TR-ND; ComponentLink1Description: Datasheet; ComponentLink1URL: http://www.vishay.com/docs/29044/ntcs0805e3t.pdf; ComponentLink2Description: Digi-Key Listing; ComponentLink2URL: https://www.digikey.com/product-detail/en/vishay-bc-components/NTCS0805E3103FLT/BC2733TR-ND/2615416; Price: 0.3007; Device Package: 0805 (2012 Metric)
footprint NTC 0805/2012
pins: 1, 2

## NTCS0805E3103FMT
designator R?  Resistance in Ohms @ 25C: 10k
THERMISTOR NTC 10K OHM SMD 0805; Part Number: NTCS0805E3103FMT; Manufacturer: Vishay BC Components; TemperatureRange: -40C ~ 150C; Resistance Tolerance: 1%; B Value Tolerance: 3%; B25/85: 3570K; Power - Max: 210mW; Value: 10k; PartId: 16708; Supplier 1: Digi-Key; Supplier Part Number 1: BC2558TR-ND; ComponentLink1Description: Datasheet; ComponentLink1URL: http://www.vishay.com/docs/29044/ntcs0805e3t.pdf; ComponentLink2Description: Digi-Key Listing; ComponentLink2URL: https://www.digikey.com/product-detail/en/vishay-bc-components/NTCS0805E3103FMT/BC2558TR-ND/2237367; Price: 0.3007; Device Package: 0805 (2012 Metric)
footprint NTC 0805/2012
pins: 1, 2

## NTCS0805E3103GMT
designator R?  Resistance in Ohms @ 25C: 10k
THERMISTOR NTC 10K OHM SMD 0805; Part Number: NTCS0805E3103GMT; Manufacturer: Vishay BC Components; TemperatureRange: -40C ~ 150C; Resistance Tolerance: 2%; B Value Tolerance: 3%; B25/85: 3570K; Power - Max: 210mW; Value: 10k; PartId: 16732; Supplier 1: Digi-Key; Supplier Part Number 1: BC2559TR-ND; ComponentLink1Description: Datasheet; ComponentLink1URL: http://www.vishay.com/docs/29044/ntcs0805e3t.pdf; ComponentLink2Description: Digi-Key Listing; ComponentLink2URL: https://www.digikey.com/product-detail/en/vishay-bc-components/NTCS0805E3103GMT/BC2559TR-ND/2237368; Price: 0.2696; Device Package: 0805 (2012 Metric)
footprint NTC 0805/2012
pins: 1, 2

## NTCS0805E3103HLT
designator R?  Resistance in Ohms @ 25C: 10k
THERMISTOR NTC 10K OHM SMD 0805; Part Number: NTCS0805E3103HLT; Manufacturer: Vishay BC Components; TemperatureRange: -40C ~ 150C; Resistance Tolerance: 3%; B25/85: 3430K; Power - Max: 210mW; Value: 10k; PartId: 16722; Supplier 1: Digi-Key; Supplier Part Number 1: BC2735TR-ND; ComponentLink1Description: Datasheet; ComponentLink1URL: http://www.vishay.com/docs/29044/ntcs0805e3t.pdf; ComponentLink2Description: Digi-Key Listing; ComponentLink2URL: https://www.digikey.com/product-detail/en/vishay-bc-components/NTCS0805E3103HLT/BC2735TR-ND/2615418; Price: 0.1798; B Value Tolerance: 3%; Device Package: 0805 (2012 Metric)
footprint NTC 0805/2012
pins: 1, 2

## NTCS0805E3103HMT
designator R?  Resistance in Ohms @ 25C: 10k
THERMISTOR NTC 10K OHM SMD 0805; Part Number: NTCS0805E3103HMT; Manufacturer: Vishay BC Components; TemperatureRange: -40C ~ 150C; Resistance Tolerance: 3%; B25/85: 3570K; Power - Max: 210mW; Value: 10k; PartId: 16737; Supplier 1: Digi-Key; Supplier Part Number 1: BC2560TR-ND; ComponentLink1Description: Datasheet; ComponentLink1URL: http://www.vishay.com/docs/29044/ntcs0805e3t.pdf; ComponentLink2Description: Digi-Key Listing; ComponentLink2URL: https://www.digikey.com/product-detail/en/vishay-bc-components/NTCS0805E3103HMT/BC2560TR-ND/2237369; Price: 0.1798; B Value Tolerance: 3%; Device Package: 0805 (2012 Metric)
footprint NTC 0805/2012
pins: 1, 2

## NTCS0805E3103JHT
designator R?  Resistance in Ohms @ 25C: 10k
THERMISTOR NTC 10K OHM SMD 0805; Part Number: NTCS0805E3103JHT; Manufacturer: Vishay BC Components; TemperatureRange: -40C ~ 150C; Resistance Tolerance: 5%; B Value Tolerance: 1%; B25/85: 3940K; Power - Max: 210mW; Value: 10k; PartId: 16716; Supplier 1: Digi-Key; Supplier Part Number 1: BC2561TR-ND; ComponentLink1Description: Datasheet; ComponentLink1URL: http://www.vishay.com/docs/29044/ntcs0805e3t.pdf; ComponentLink2Description: Digi-Key Listing; ComponentLink2URL: https://www.digikey.com/product-detail/en/vishay-bc-components/NTCS0805E3103JHT/BC2561TR-ND/2237370; Price: 0.1398; Device Package: 0805 (2012 Metric)
footprint NTC 0805/2012
pins: 1, 2

## NTCS0805E3103JMT
designator R?  Resistance in Ohms @ 25C: 10k
THERMISTOR NTC 10K OHM 0805 SMD; Part Number: NTCS0805E3103JMT; Manufacturer: Vishay BC Components; TemperatureRange: -40C ~ 150C; Resistance Tolerance: 5%; B Value Tolerance: 3%; B25/85: 3570K; Power - Max: 210mW; Value: 10k; PartId: 16703; Supplier 1: Digi-Key; Supplier Part Number 1: BC2292TR-ND; ComponentLink1Description: Datasheet; ComponentLink1URL: http://www.vishay.com/docs/29044/ntcs0805e3t.pdf; ComponentLink2Description: Digi-Key Listing; ComponentLink2URL: https://www.digikey.com/product-detail/en/vishay-bc-components/NTCS0805E3103JMT/BC2292TR-ND/769402; Price: 0.1398; Device Package: 0805 (2012 Metric)
footprint NTC 0805/2012
pins: 1, 2

## NTCS0805E3104FXT
designator R?  Resistance in Ohms @ 25C: 100k
THERMISTOR NTC 100K OHM 1% 0805; Part Number: NTCS0805E3104FXT; Manufacturer: Vishay BC Components; TemperatureRange: -40C ~ 150C; B25/85: 4100K; Power - Max: 210mW; Value: 100k; PartId: 16736; Supplier 1: Digi-Key; Supplier Part Number 1: BC2562TR-ND; ComponentLink1Description: Datasheet; ComponentLink1URL: http://www.vishay.com/docs/29044/ntcs0805e3t.pdf; ComponentLink2Description: Digi-Key Listing; ComponentLink2URL: https://www.digikey.com/product-detail/en/vishay-bc-components/NTCS0805E3104FXT/BC2562TR-ND/2237371; Price: 0.3007; Resistance Tolerance: 1%; B Value Tolerance: 1%; Device Package: 0805 (2012 Metric)
footprint NTC 0805/2012
pins: 1, 2

## NTCS0805E3104HXT
designator R?  Resistance in Ohms @ 25C: 100k
THERMISTOR NTC 100K OHM 3% 0805; Part Number: NTCS0805E3104HXT; Manufacturer: Vishay BC Components; TemperatureRange: -40C ~ 150C; B Value Tolerance: 1%; B25/85: 4100K; Power - Max: 210mW; Value: 100k; PartId: 16718; Supplier 1: Digi-Key; Supplier Part Number 1: BC2564TR-ND; ComponentLink1Description: Datasheet; ComponentLink1URL: http://www.vishay.com/docs/29044/ntcs0805e3t.pdf; ComponentLink2Description: Digi-Key Listing; ComponentLink2URL: https://www.digikey.com/product-detail/en/vishay-bc-components/NTCS0805E3104HXT/BC2564TR-ND/2237373; Price: 0.1798; Resistance Tolerance: 3%; Device Package: 0805 (2012 Metric)
footprint NTC 0805/2012
pins: 1, 2

## NTCS0805E3104JMT
designator R?  Resistance in Ohms @ 25C: 100k
THERMISTOR NTC 100K OHM 5% 0805; Part Number: NTCS0805E3104JMT; Manufacturer: Vishay BC Components; TemperatureRange: -40C ~ 150C; B Value Tolerance: 1%; B25/85: 3590K; Power - Max: 210mW; Value: 100k; PartId: 16723; Supplier 1: Digi-Key; Supplier Part Number 1: BC2565TR-ND; ComponentLink1Description: Datasheet; ComponentLink1URL: http://www.vishay.com/docs/29044/ntcs0805e3t.pdf; ComponentLink2Description: Digi-Key Listing; ComponentLink2URL: https://www.digikey.com/product-detail/en/vishay-bc-components/NTCS0805E3104JMT/BC2565TR-ND/2237374; Price: 0.1398; Resistance Tolerance: 5%; Device Package: 0805 (2012 Metric)
footprint NTC 0805/2012
pins: 1, 2

## NTCS0805E3104SMT
designator R?  Resistance in Ohms @ 25C: 100k
THERMISTOR NTC 100K OHM 1% 0805; Part Number: NTCS0805E3104SMT; Manufacturer: Vishay BC Components; TemperatureRange: -40C ~ 125C; B25/85: 3590K; Power - Max: 210mW; Value: 100k; PartId: 16746; Supplier 1: Digi-Key; Supplier Part Number 1: BC2905TR-ND; ComponentLink1Description: Datasheet; ComponentLink1URL: http://www.vishay.com/docs/29151/ntcse3smt.pdf; ComponentLink2Description: Digi-Key Listing; ComponentLink2URL: https://www.digikey.com/product-detail/en/vishay-bc-components/NTCS0805E3104SMT/BC2905TR-ND/4896942; Price: 0.4463; Resistance Tolerance: 1%; B Value Tolerance: 1%; Device Package: 0805 (2012 Metric)
footprint NTC 0805/2012
pins: 1, 2

## NTCS0805E3153FMT
designator R?  Resistance in Ohms @ 25C: 15k
THERMISTOR NTC 15K OHM SMD 0805; Part Number: NTCS0805E3153FMT; Manufacturer: Vishay BC Components; TemperatureRange: -40C ~ 150C; Resistance Tolerance: 1%; B25/85: 3700K; Power - Max: 210mW; Value: 15k; PartId: 16747; Supplier 1: Digi-Key; Supplier Part Number 1: BC2567TR-ND; ComponentLink1Description: Datasheet; ComponentLink1URL: http://www.vishay.com/docs/29044/ntcs0805e3t.pdf; ComponentLink2Description: Digi-Key Listing; ComponentLink2URL: https://www.digikey.com/product-detail/en/vishay-bc-components/NTCS0805E3153FMT/BC2567TR-ND/2237376; Price: 0.403; B Value Tolerance: 1%; Device Package: 0805 (2012 Metric)
footprint NTC 0805/2012
pins: 1, 2

## NTCS0805E3153JMT
designator R?  Resistance in Ohms @ 25C: 15k
THERMISTOR NTC 15K OHM 0805 SMD; Part Number: NTCS0805E3153JMT; Manufacturer: Vishay BC Components; TemperatureRange: -40C ~ 150C; Resistance Tolerance: 5%; B Value Tolerance: 1%; B25/85: 3700K; Power - Max: 210mW; Value: 15k; PartId: 16713; Supplier 1: Digi-Key; Supplier Part Number 1: BC2293TR-ND; ComponentLink1Description: Datasheet; ComponentLink1URL: http://www.vishay.com/docs/29044/ntcs0805e3t.pdf; ComponentLink2Description: Digi-Key Listing; ComponentLink2URL: https://www.digikey.com/product-detail/en/vishay-bc-components/NTCS0805E3153JMT/BC2293TR-ND/769403; Price: 0.1398; Device Package: 0805 (2012 Metric)
footprint NTC 0805/2012
pins: 1, 2

## NTCS0805E3222FMT
designator R?  Resistance in Ohms @ 25C: 2.2k
THERMISTOR NTC 2.2K OHM SMD 0805; Part Number: NTCS0805E3222FMT; Manufacturer: Vishay BC Components; TemperatureRange: -40C ~ 150C; Resistance Tolerance: 1%; B25/85: 3600K; Power - Max: 210mW; Value: 2.2k; PartId: 16731; Supplier 1: Digi-Key; Supplier Part Number 1: BC2569TR-ND; ComponentLink1Description: Datasheet; ComponentLink1URL: http://www.vishay.com/docs/29044/ntcs0805e3t.pdf; ComponentLink2Description: Digi-Key Listing; ComponentLink2URL: https://www.digikey.com/product-detail/en/vishay-bc-components/NTCS0805E3222FMT/BC2569TR-ND/2237378; Price: 0.3007; B Value Tolerance: 1%; Device Package: 0805 (2012 Metric)
footprint NTC 0805/2012
pins: 1, 2

## NTCS0805E3222GMT
designator R?  Resistance in Ohms @ 25C: 2.2k
THERMISTOR NTC 2.2K OHM SMD 0805; Part Number: NTCS0805E3222GMT; Manufacturer: Vishay BC Components; TemperatureRange: -40C ~ 150C; Resistance Tolerance: 2%; B Value Tolerance: 1%; B25/85: 3600K; Power - Max: 210mW; Value: 2.2k; PartId: 16750; Supplier 1: Digi-Key; Supplier Part Number 1: BC2570TR-ND; ComponentLink1Description: Datasheet; ComponentLink1URL: http://www.vishay.com/docs/29044/ntcs0805e3t.pdf; ComponentLink2Description: Digi-Key Listing; ComponentLink2URL: https://www.digikey.com/product-detail/en/vishay-bc-components/NTCS0805E3222GMT/BC2570TR-ND/2237379; Price: 0.2696; Device Package: 0805 (2012 Metric)
footprint NTC 0805/2012
pins: 1, 2